# EAGLE library part MCT12080 (library aprs)
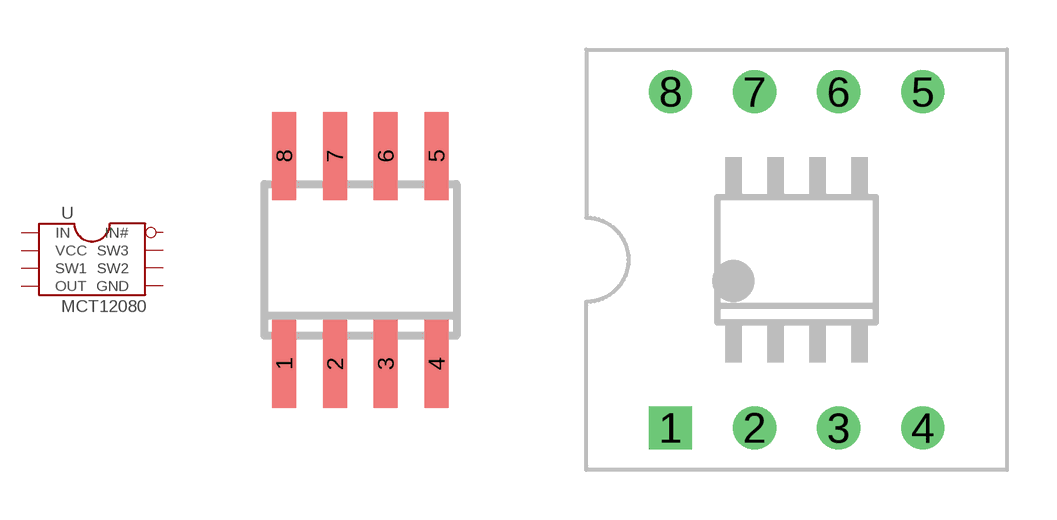
[diagram p0: symbol with the pads of SO08; footprints SO08, SO08-DIP8W]

Designator prefix U

## MCT12080  [SO08]
1  IN  in
2  VCC  pwr
3  SW1  in
4  OUT  out
5  GND  pwr
6  SW2  in
7  SW3  in
8  IN#  in

## MCT12080SO8-DIP8W  [SO08-DIP8W]
Pads as for SO08

## Footprint SO08 (pad centres in mm)
SMALL OUTLINE INTEGRATED CIRCUIT body 3.9 mm/JEDEC MS-012AA
smd 0.6 x 2.2: 1 -1.905,-2.6; 2 -0.635,-2.6; 3 0.635,-2.6; 4 1.905,-2.6; 5 1.905,2.6; 6 0.635,2.6; 7 -0.635,2.6; 8 -1.905,2.6

## Footprint SO08-DIP8W (pad centres in mm)
SMALL OUTLINE INTEGRATED CIRCUIT body 3.9 mm/JEDEC MS-012AA
drill 0.8 square: 1 -3.81,-5.08
drill 0.8 round: 2 -1.27,-5.08; 3 1.27,-5.08; 4 3.81,-5.08; 5 3.81,5.08; 6 1.27,5.08; 7 -1.27,5.08; 8 -3.81,5.08